# EAGLE library part EUROSTYLE-09-HDR (library Molex)
Eurostyle (tm) 3.50mm Pitch PCB Header, 9 Circuits This is the pluggable screw terminal block that Molex makes (like on the BQ76PL536 EVM boards). Molex series number: 39502 (horizontal header), 39501 (vertical header) Mates with: 39500 horizontal plug, 39503 vertical plug Website (horizontal header): http://www.molex.com/molex/products/datasheet.jsp?part=active/0395021009_TERMINAL_BLOCKS.xml Website (vertical header): http://www.molex.com/molex/products/datasheet.jsp?part=active/0395011009_TERMINAL_BLOCKS.xml Datasheet: http://www.mouser.com/ds/2/276/0395021009_TERMINAL_BLOCKS-163866.pdf
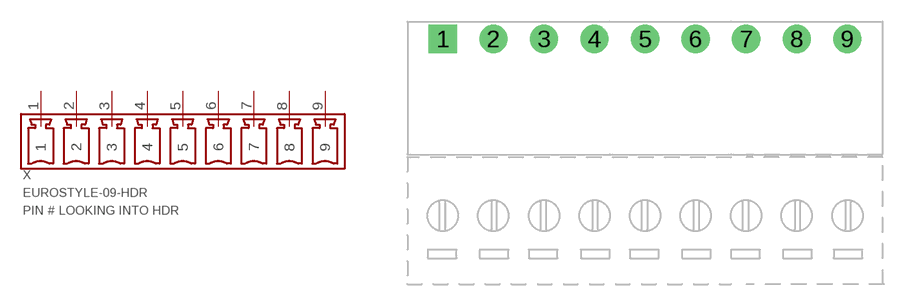
[diagram p17: symbol with the pads of EUROSTYLE_HEADER-9CKT-RA; footprint EUROSTYLE_HEADER-9CKT-RA]

Designator prefix X

## EUROSTYLE-09-HDR (PARTNO: 39502-1009)  [EUROSTYLE_HEADER-9CKT-RA]
1  1
2  2
3  3
4  4
5  5
6  6
7  7
8  8
9  9

## Footprint EUROSTYLE_HEADER-9CKT-RA (pad centres in mm)
Datasheet: http://www.mouser.com/ds/2/276/0395021009_TERMINAL_BLOCKS-163866.pdf
drill 1.3 square: 1 -14,7
drill 1.3 round: 2 -10.5,7; 3 -7,7; 4 -3.5,7; 5 0,7; 6 3.5,7; 7 7,7; 8 10.5,7; 9 14,7